# Altium footprint library ST Mosfet.PcbLib: 1 footprints
Each footprint in its own frame and in the unit in brackets; x right, y up, seen from the top. Pads: shape width x height; smd on the part's side, far side on the other; paste and mask are expansions set on the pad; w line width, h text height; cw(c..) or ccw(c..) is an arc to the next point about the centre after c.
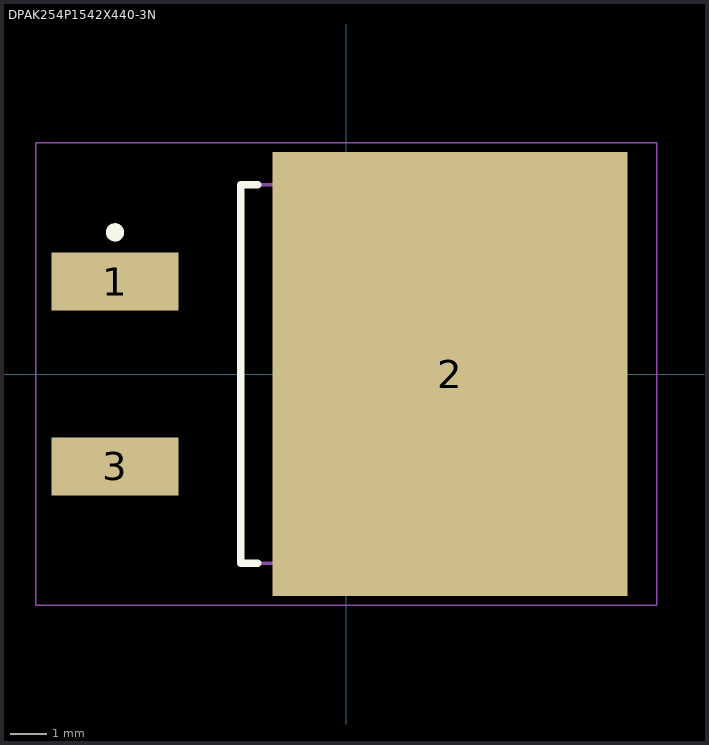
[diagram p0: the footprint, top view; thin cyan lines are the x and y axes]

## DPAK254P1542X440-3N [mm] "D2-PAK, 3-Pads, Body 7,77x8,56mm (max), IPC Medium Density"
height 4.4
pads (3):
  rect 3.5x1.6 smd: 1(-6.35,2.54) 3(-6.35,-2.54)
  rect 9.75x12.2 smd: 2(2.85,0)
Top Overlay:
  circle w0.25: c-6.35,3.89 r0.125
  lines w0.2: -2.425,-5.2 -2.9,-5.2 -2.9,5.2 -2.425,5.2
Mechanical 13:
  lines w0.1: -2.9,-5.2 6.45,-5.2 6.45,5.2 -2.9,5.2 -2.9,-5.2
Mechanical 15:
  lines w0.05: -8.525,-6.35 8.525,-6.35 8.525,6.35 -8.525,6.35 -8.525,-6.35
  lines w0.1: -0.5,0 0.5,0 ; 0,-0.5 0,0.5
3D body: height 2.3, standoff -0.01, extent -6.095,-3.303 3.605,3.277